# EAGLE library part 62504021721 (library Wire-to-Board (rev18a))
WR-BHD 2.00mm Male Angled Box Header, 40 Pins=>Code : Con_WTB_BHD_2.00_Male_THT_62504021721 <http://katalog.we-online.de/media/thumbs2/eican/thb_Con_WTB_BHD_2.00_Male_THT_6250xx21721_pf2.jpg> Details see: http://katalog.we-online.de/en/em/625_0xx_217_21 Created 2014-06-05, Karrer Zheng 2014 (C) Würth Elektronik
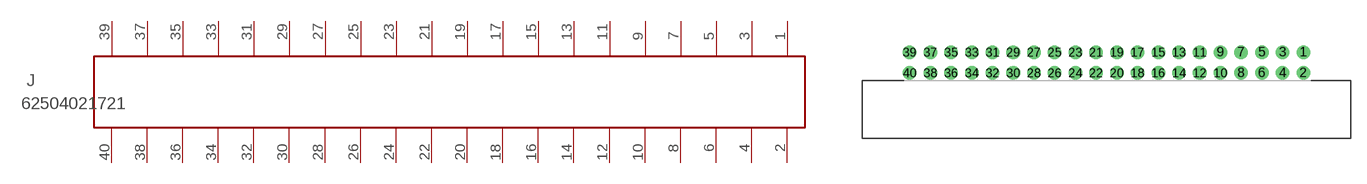
[diagram p250: symbol with the pads of 62504021721; footprint 62504021721]

Designator prefix J

## 62504021721  [62504021721]
1  1  pas
2  2  pas
3  3  pas
4  4  pas
5  5  pas
6  6  pas
7  7  pas
8  8  pas
9  9  pas
10  10  pas
11  11  pas
12  12  pas
13  13  pas
14  14  pas
15  15  pas
16  16  pas
17  17  pas
18  18  pas
19  19  pas
20  20  pas
21  21  pas
22  22  pas
23  23  pas
24  24  pas
25  25  pas
26  26  pas
27  27  pas
28  28  pas
29  29  pas
30  30  pas
31  31  pas
32  32  pas
33  33  pas
34  34  pas
35  35  pas
36  36  pas
37  37  pas
38  38  pas
39  39  pas
40  40  pas

## Footprint 62504021721 (pad centres in mm)
WR-BHD-2.00mm Male Angled Box Header,40 pins
drill 0.8: 1 19,1; 2 19,-1; 3 17,1; 4 17,-1; 5 15,1; 6 15,-1; 7 13,1; 8 13,-1; 9 11,1; 10 11,-1; 11 9,1; 12 9,-1; 13 7,1; 14 7,-1; 15 5,1; 16 5,-1; 17 3,1; 18 3,-1; 19 1,1; 20 1,-1; 21 -1,1; 22 -1,-1; 23 -3,1; 24 -3,-1; 25 -5,1; 26 -5,-1; 27 -7,1; 28 -7,-1; 29 -9,1; 30 -9,-1; 31 -11,1; 32 -11,-1; 33 -13,1; 34 -13,-1; 35 -15,1; 36 -15,-1; 37 -17,1; 38 -17,-1; 39 -19,1; 40 -19,-1